# Altium schematic symbol library Header5.SchLib: 1 symbol
Pins are listed as number, name and electrical type; pins without a type are passive.

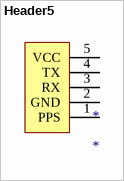
[diagram p0: symbol Header5]

## Header5
designator *
pins: 1 PPS, 2 GND, 3 RX, 4 TX, 5 VCC